# Altium footprint library dl002.PcbLib: 32 footprints (part 2 of 2)
Each footprint in its own frame and in the unit in brackets; x right, y up, seen from the top. Pads: shape width x height; smd on the part's side, far side on the other; paste and mask are expansions set on the pad; w line width, h text height; cw(c..) or ccw(c..) is an arc to the next point about the centre after c.
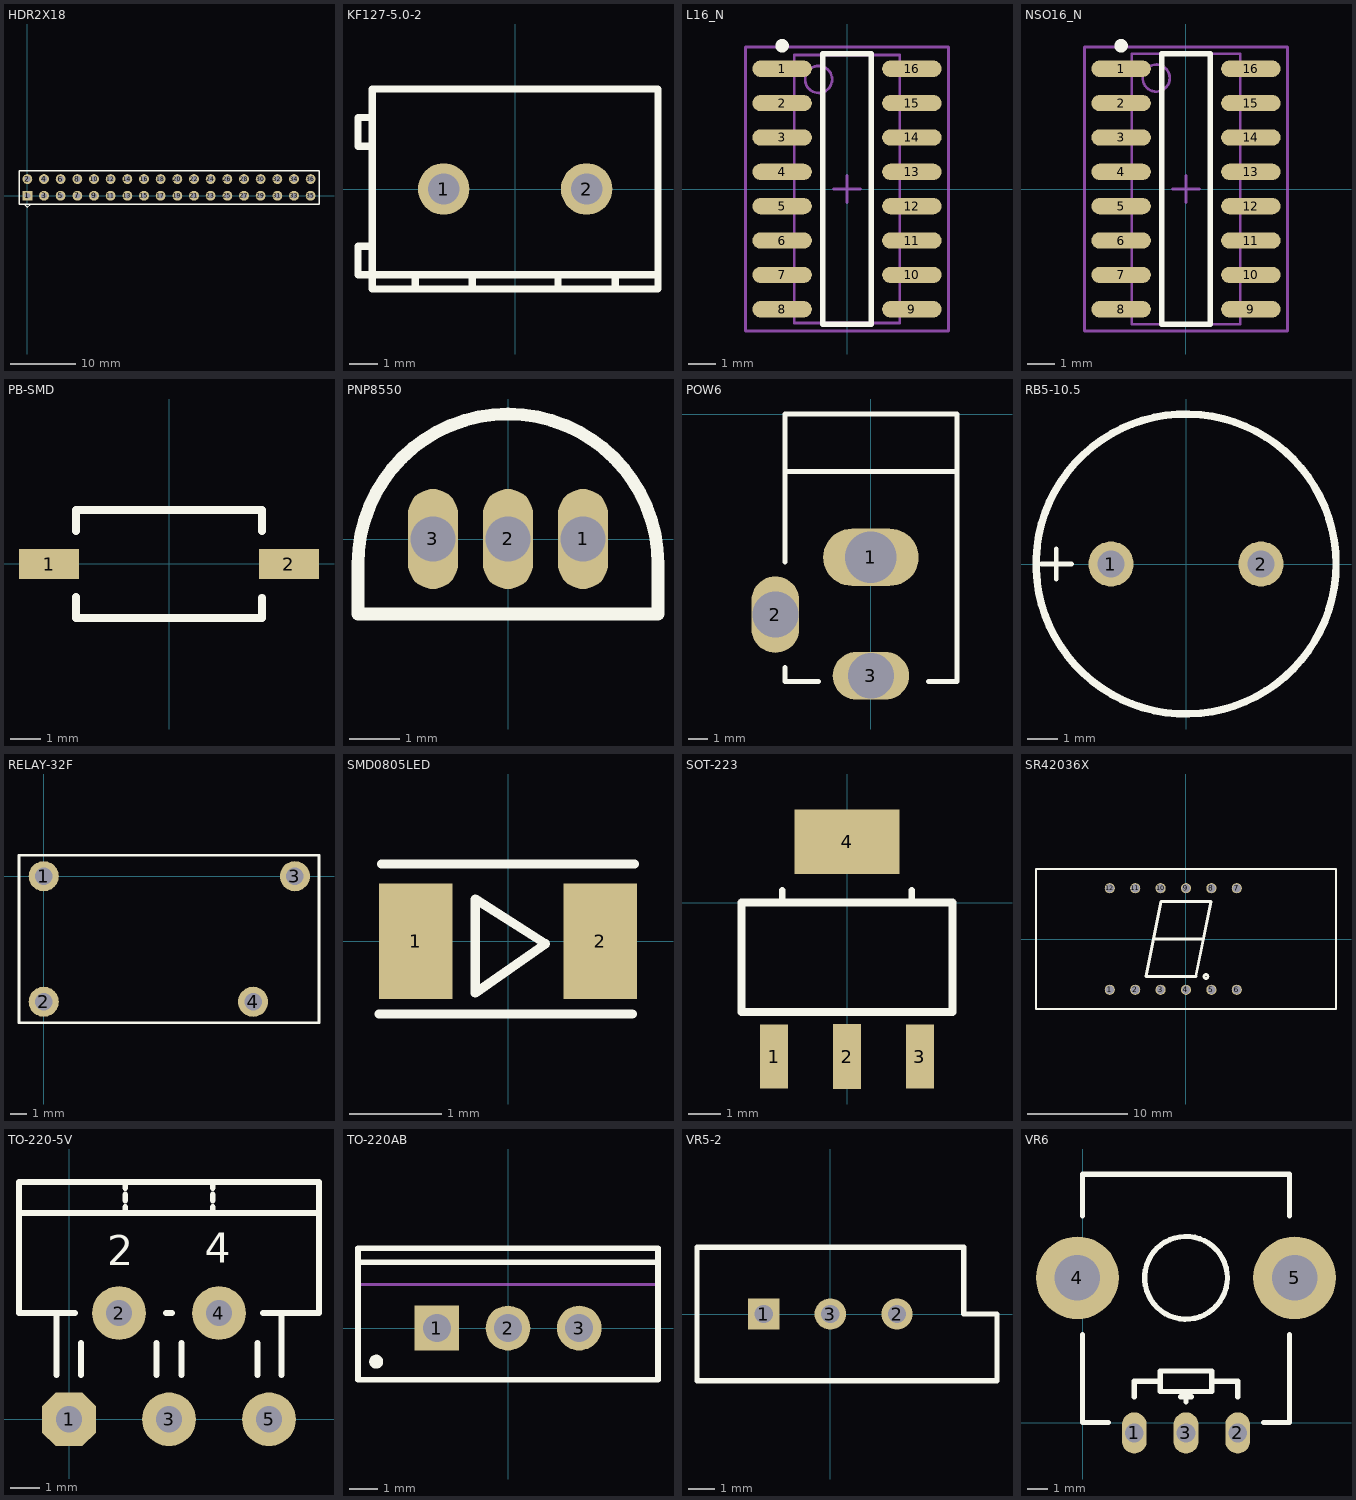
[diagram p1: the footprints below, top view; thin cyan lines are the x and y axes]

## HDR2X18 [mm] "Connector; Header; 18x2 Position"
height 2.54
pads (36):
  rect 1.5x1.5 hole 0.9: 1(0,0)
  round 1.5 hole 0.9: 2(0,2.54) 3(2.54,0) 4(2.54,2.54) 5(5.08,0) 6(5.08,2.54) 7(7.62,0) 8(7.62,2.54) 9(10.16,0) 10(10.16,2.54) 11(12.7,0) 12(12.7,2.54) 13(15.24,0) 14(15.24,2.54) 15(17.78,0) 16(17.78,2.54) 17(20.32,0) 18(20.32,2.54) 19(22.86,0) 20(22.86,2.54) 21(25.4,0) 22(25.4,2.54) 23(27.94,0) 24(27.94,2.54) 25(30.48,0) 26(30.48,2.54) 27(33.02,0) 28(33.02,2.54) 29(35.56,0) 30(35.56,2.54) 31(38.1,0) 32(38.1,2.54) 33(40.64,0) 34(40.64,2.54) 35(43.18,0) 36(43.18,2.54)
Top Overlay:
  lines w0.152: -0.5,-1.27 0,-1.75 0.5,-1.27
  lines w0.2: -1.27,-1.27 44.45,-1.27 44.45,3.81 -1.27,3.81 -1.27,-1.27

## KF127-5.0-2 [mm]
height 10
pads (2):
  round 1.8 hole 1.1: 1(-2.5,0) 2(2.5,0)
Top Overlay:
  lines w0.254: -5,-2 -5.5,-2 -5.5,-3 -5,-3 5,-3 ; -5,1.5 -5.5,1.5 -5.5,2.5 -5,2.5 ; -3.5,-3.5 -3.5,-3 ; -1.5,-3.5 -1.5,-3 ; 1.5,-3.5 1.5,-3 ; 3.5,-3.5 3.5,-3 ; -5,-3.5 -5,3.5 5,3.5 5,-3.5 -5,-3.5

## L16_N [mm] "SOIC, 16-Leads, Body 9.9x3.9mm, Pitch 1.27mm, IPC Medium Density"
height 1.75
pads (16):
  oval 2.2x0.6 smd: 1(-2.4,4.445) 2(-2.4,3.175) 3(-2.4,1.905) 4(-2.4,0.635) 5(-2.4,-0.635) 6(-2.4,-1.905) 7(-2.4,-3.175) 8(-2.4,-4.445) 9(2.4,-4.445) 10(2.4,-3.175) 11(2.4,-1.905) 12(2.4,-0.635) 13(2.4,0.635) 14(2.4,1.905) 15(2.4,3.175) 16(2.4,4.445)
Top Overlay:
  circle w0.25: c-2.4,5.295 r0.125
  lines w0.2: -0.9,-5 0.9,-5 0.9,5 -0.9,5 -0.9,-5
Mechanical 13:
  circle w0.1: c-1.05,4.05 r0.5
  lines w0.1: -1.95,-4.95 1.95,-4.95 1.95,4.95 -1.95,4.95 -1.95,-4.95
Mechanical 15:
  lines w0.1: -0.5,0 0.5,0 ; 0,-0.5 0,0.5 ; -3.75,-5.25 3.75,-5.25 3.75,5.25 -3.75,5.25 -3.75,-5.25
3D body: height 1.75, standoff 0, extent -1.95,-4.95 1.95,4.95

## NSO16_N [mm] "SOIC, 16-Leads, Body 9.9x3.9mm, Pitch 1.27mm, IPC Medium Density"
height 1.75
pads (16):
  oval 2.2x0.6 smd: 1(-2.4,4.445) 2(-2.4,3.175) 3(-2.4,1.905) 4(-2.4,0.635) 5(-2.4,-0.635) 6(-2.4,-1.905) 7(-2.4,-3.175) 8(-2.4,-4.445) 9(2.4,-4.445) 10(2.4,-3.175) 11(2.4,-1.905) 12(2.4,-0.635) 13(2.4,0.635) 14(2.4,1.905) 15(2.4,3.175) 16(2.4,4.445)
Top Overlay:
  circle w0.25: c-2.4,5.295 r0.125
  lines w0.2: -0.9,-5 -0.9,5 0.9,5 0.9,-5 -0.9,-5
Mechanical 13:
  circle w0.1: c-1.1,4.1 r0.5
  lines w0.1: -2,-5 -2,5 2,5 2,-5 -2,-5
Mechanical 15:
  lines w0.1: -0.5,0 0.5,0 ; 0,-0.5 0,0.5 ; -3.75,-5.25 -3.75,5.25 3.75,5.25 3.75,-5.25 -3.75,-5.25
3D body: height 1.75, standoff 0, extent -2,-5 2,5

## PB-SMD [mm]
height 5
pads (2):
  rect 2x1 smd: 1(-4,0) 2(4,0)
Top Overlay:
  lines w0.254: -3.1,-1.1 -3.1,-1.8 3,-1.8 ; -3.1,1.1 -3.1,1.8 3.1,1.8 3.1,1.1 ; 3.1,-1.8 3.1,-1.128

## PNP8550 [mm]
height 10
pads (3):
  oval 1x2 hole 0.9: 1(1.5,0) 2(0,0) 3(-1.5,0)
Top Overlay:
  lines w0.254: -3,-1.5 -3,-0.5 cw(c0,-0.5) 3,-0.5 3,-1.5 -3,-1.5

## POW6 [mm]
height 11
pads (3):
  oval 5x3 hole 2.7: 1(0,-7.5)
  oval 2.5x4 hole 2.4: 2(-5,-10.5)
  oval 4x2.5 hole 2.4: 3(0,-13.7)
Top Overlay:
  lines w0.254: -4.5,-13.25 -4.5,-14 -2.75,-14 ; -4.5,-7.75 -4.5,0 4.5,0 4.5,-14 3,-14 ; -4.5,-3 4.5,-3
Mechanical 1:
  lines w0.254: -5.3,-11.5 ccw(c-5,-11.5) -4.7,-11.5 -4.7,-9.5 ccw(c-5,-9.5) -5.3,-9.5 -5.3,-11.5 ; -1.1,-14 cw(c-1.1,-13.7) -1.1,-13.4 1.1,-13.4 cw(c1.1,-13.7) 1.1,-14 -1.1,-14 ; -1.1,-7.8 cw(c-1.1,-7.5) -1.1,-7.2 1.1,-7.2 cw(c1.1,-7.5) 1.1,-7.8 -1.1,-7.8

## RB5-10.5 [mm]
height 2.54
pads (2):
  round 1.5 hole 0.9: 1(-2.5,0) 2(2.5,0)
Top Overlay:
  circle w0.25: c0,0 r5
  lines w0.152: -4.826,0 -3.81,0 ; -4.318,-0.508 -4.318,0.508

## RELAY-32F [mil] "18.2X10.2X15.3MM"
height 100
pads (4):
  round 72 hole 42: 1(0,0) 2(0,-300) 3(600,0) 4(500,-300)
Top Overlay:
  lines w6: -59.06,-350 -59.06,50 657.48,50 657.48,-350 -59.06,-350

## SMD0805LED [mm]
height 2.54
pads (2):
  rect 0.8x1.25 smd: 1(-1,0) 2(1,0)
Top Overlay:
  lines w0.1: -1.397,-0.787 1.346,-0.787 ; -1.372,0.838 1.372,0.838 ; -0.356,-0.559 0.406,-0.025 -0.356,0.457 -0.356,-0.559

## SOT-223 [mil]
pads (4):
  rect 34x78.74 smd: 1(-90,-190) 3(90,-190)
  rect 34x80 smd: 2(0,-190)
  rect 130x80 smd: 4(0,75)
Top Overlay:
  lines w8: -80,0 -80,15 ; 80,0 80,15
  lines w10: -130,-135 -130,0 130,0 130,-135 -130,-135

## SR42036X [mil]
height 100
pads (12):
  round 40 hole 32: 1(-300,-200) 2(-200,-200) 3(-100,-200) 4(0,-200) 5(100,-200) 6(200,-200) 7(200,200) 8(100,200) 9(0,200) 10(-100,200) 11(-200,200) 12(-300,200)
Top Overlay:
  circle w10: c78.74,-147.64 r7.87
  lines w6: -590.55,-275.59 -590.55,275.59 590.55,275.59 590.55,-275.59 -590.55,-275.59
  lines w10: -127.95,0 68.9,0 ; -157.48,-147.64 39.37,-147.64 98.43,147.64 -98.42,147.64 -157.48,-147.64

## TO-220-5V [mil]
height 100
pads (5):
  oct 71.67x71.67 hole 35: 1(0,0)
  round 71.67 hole 35: 2(66.67,141.67) 3(133.33,0) 4(200,141.67) 5(266.67,0)
Top Overlay:
  lines w7.87: -66.67,275 333.33,275 ; -16.67,59.05 -16.67,141.67 ; 7.87,141.67 -66.67,141.67 -66.67,316.67 333.33,316.67 333.33,141.67 258.79,141.67 ; 15.75,59.05 15.75,101.5 ; 75,275 75,283.33 ; 75,291.67 75,300 ; 75,308.33 75,316.67 ; 116.67,59.05 116.67,101.5 ; 129.4,141.67 137.27,141.67 ; 150,59.05 150,101.5 ; 191.67,275 191.67,283.33 ; 191.67,291.67 191.67,300 ; 191.67,308.33 191.67,316.67 ; 251.21,59.05 251.21,101.5 ; 283.33,59.05 283.33,141.67
  text "4" at 180.98,208.71 h40
  text "2" at 51.22,205.36 h40

## TO-220AB [mm] "TO, Thru-Hole, Vertical, Heatsink Mounted; 3 In-Line Leads; Pitch 2.54 mm"
height 19.3
pads (3):
  rect 1.6x1.6 hole 1: 1(-2.54,0)
  round 1.6 hole 1: 2(0,0) 3(2.54,0)
Top Overlay:
  circle w0.25: c-4.7,-1.2 r0.125
  lines w0.2: -5.35,2.35 5.35,2.35 ; -5.35,-1.85 -5.35,2.85 5.35,2.85 5.35,-1.85 -5.35,-1.85
Mechanical 13:
  lines w0.1: -5.35,1.55 5.35,1.55 ; -5.35,-1.85 5.35,-1.85 5.35,2.85 -5.35,2.85 -5.35,-1.85
Mechanical 15:
  lines w0.1: -0.5,0 0.5,0 ; 0,-0.5 0,0.5
3D body: height 12.9, standoff 4, extent -5.4,-1.9 5.4,2.9
3D body: height 19.3, standoff 12.9, extent -5.349,1.551 5.349,2.849

## VR5-2 [mm] "Thru-Hole; 3 Leads"
height 2.54
pads (3):
  rect 1.2x1.2 hole 0.7: 1(-2.54,0)
  round 1.2 hole 0.7: 2(2.54,0) 3(0,0)
Top Overlay:
  lines w0.2: -5.08,-2.54 6.35,-2.54 6.35,0 5.08,0 5.08,2.54 -5.08,2.54 -5.08,-2.54

## VR6 [mm]
height 10
pads (5):
  oval 1.2x2 hole 0.9: 1(2.5,-0.5) 2(7.5,-0.5) 3(5,-0.5)
  round 4 hole 2.2: 4(-0.25,7) 5(10.25,7)
Top Overlay:
  circle w0.254: c5,7 r2
  lines w0.254: 0,4.25 0,0 1.25,0 ; 0,10 0,12 10,12 10,10 ; 2.5,1.25 2.5,2 3.75,2 ; 5,1 5,1.5 ; 6.25,2 7.5,2 7.5,1.25 ; 8.75,0 10,0 10,4.25 ; 5,1.5 5.25,1.25 4.75,1.25 5,1.5 ; 3.75,1.5 6.25,1.5 6.25,2.5 3.75,2.5 3.75,1.5